# EAGLE library part EPM1270-T144 (library altera-max2)
Altera MAX II CPLD - EPM1270 TQFP-144 Device EPM1270 from Altera MAX II Family Feature EPM1270 LEs 1270 Typical Equivalent Macrocells 980 Equivalent Macrocell Range 570 ... 1270 UFM Size (bits) 8192 User I/O pins 116 tPD1 (ns) 6.2 fCNT (MHz) 304 tSU (ns) 1.2 tCO (ns) 4.6
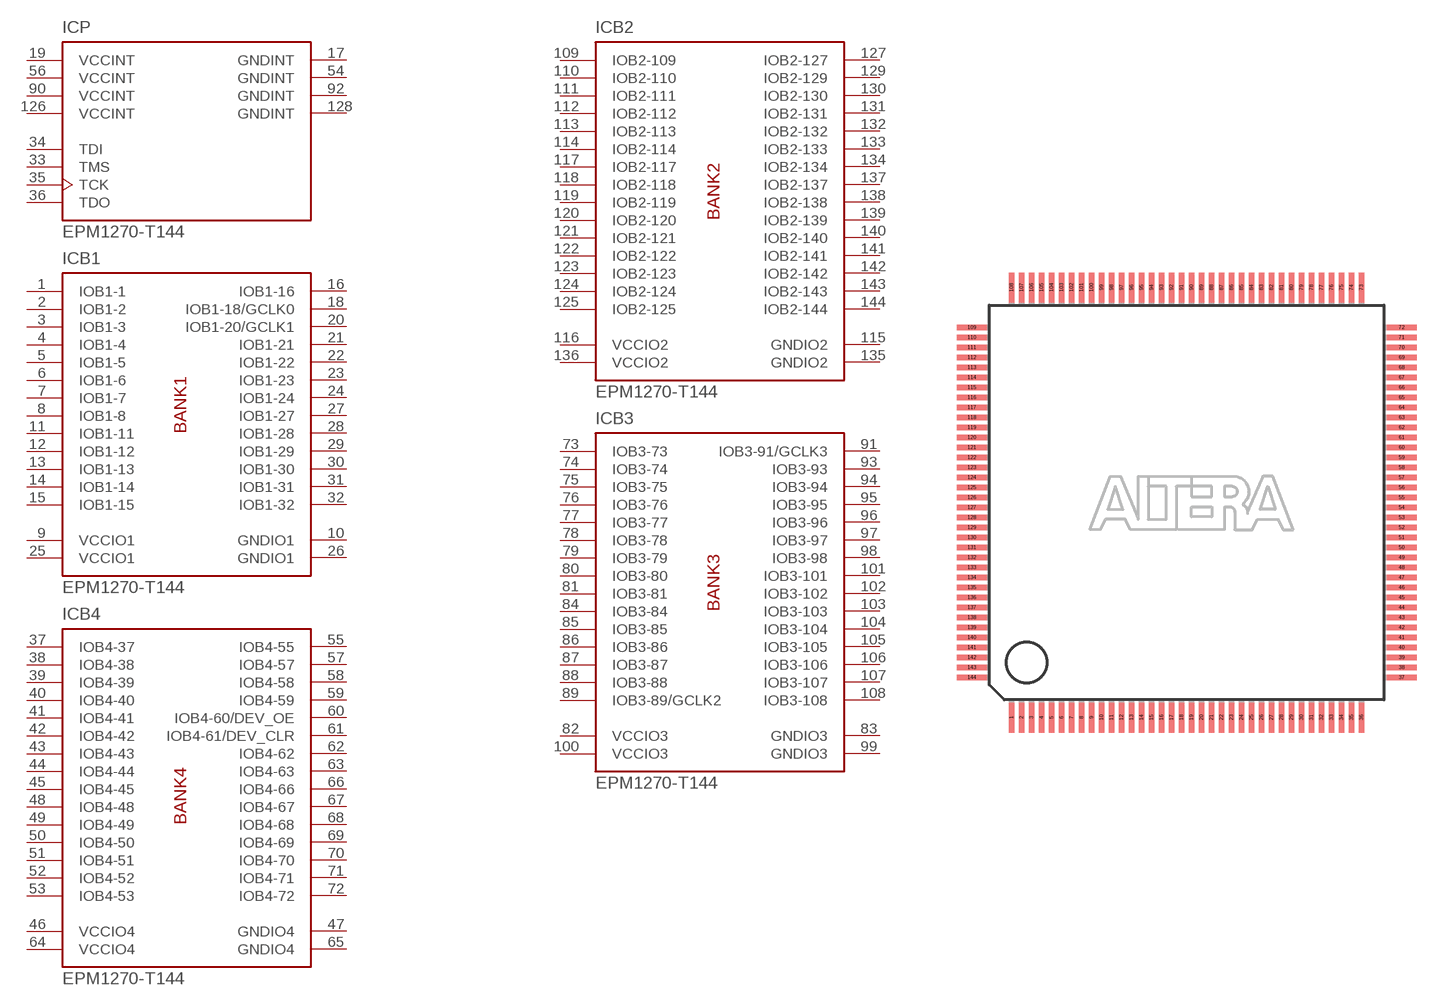
[diagram p0: symbol with the pads of TQFP144; footprint TQFP144]

Designator prefix IC; gates P=EPM1270-TQFP-P B1=EPM1270-TQFP-B1 B2=EPM1270-TQFP-B2 B3=EPM1270-TQFP-B3 B4=EPM1270-TQFP-B4

## EPM1270-T144  [TQFP144]
1  B1:IOB1-1
2  B1:IOB1-2
3  B1:IOB1-3
4  B1:IOB1-4
5  B1:IOB1-5
6  B1:IOB1-6
7  B1:IOB1-7
8  B1:IOB1-8
9  B1:VCCIO1  pwr
10  B1:GNDIO1  pwr
11  B1:IOB1-11
12  B1:IOB1-12
13  B1:IOB1-13
14  B1:IOB1-14
15  B1:IOB1-15
16  B1:IOB1-16
17  P:GNDINT  pwr
18  B1:IOB1-18/GCLK0
19  P:VCCINT  pwr
20  B1:IOB1-20/GCLK1
21  B1:IOB1-21
22  B1:IOB1-22
23  B1:IOB1-23
24  B1:IOB1-24
25  B1:VCCIO1  pwr
26  B1:GNDIO1  pwr
27  B1:IOB1-27
28  B1:IOB1-28
29  B1:IOB1-29
30  B1:IOB1-30
31  B1:IOB1-31
32  B1:IOB1-32
33  P:TMS  in
34  P:TDI  in
35  P:TCK  in
36  P:TDO  out
37  B4:IOB4-37
38  B4:IOB4-38
39  B4:IOB4-39
40  B4:IOB4-40
41  B4:IOB4-41
42  B4:IOB4-42
43  B4:IOB4-43
44  B4:IOB4-44
45  B4:IOB4-45
46  B4:VCCIO4  pwr
47  B4:GNDIO4  pwr
48  B4:IOB4-48
49  B4:IOB4-49
50  B4:IOB4-50
51  B4:IOB4-51
52  B4:IOB4-52
53  B4:IOB4-53
54  P:GNDINT  pwr
55  B4:IOB4-55
56  P:VCCINT  pwr
57  B4:IOB4-57
58  B4:IOB4-58
59  B4:IOB4-59
60  B4:IOB4-60/DEV_OE
61  B4:IOB4-61/DEV_CLR
62  B4:IOB4-62
63  B4:IOB4-63
64  B4:VCCIO4  pwr
65  B4:GNDIO4  pwr
66  B4:IOB4-66
67  B4:IOB4-67
68  B4:IOB4-68
69  B4:IOB4-69
70  B4:IOB4-70
71  B4:IOB4-71
72  B4:IOB4-72
73  B3:IOB3-73
74  B3:IOB3-74
75  B3:IOB3-75
76  B3:IOB3-76
77  B3:IOB3-77
78  B3:IOB3-78
79  B3:IOB3-79
80  B3:IOB3-80
81  B3:IOB3-81
82  B3:VCCIO3  pwr
83  B3:GNDIO3  pwr
84  B3:IOB3-84
85  B3:IOB3-85
86  B3:IOB3-86
87  B3:IOB3-87
88  B3:IOB3-88
89  B3:IOB3-89/GCLK2
90  P:VCCINT  pwr
91  B3:IOB3-91/GCLK3
92  P:GNDINT  pwr
93  B3:IOB3-93
94  B3:IOB3-94
95  B3:IOB3-95
96  B3:IOB3-96
97  B3:IOB3-97
98  B3:IOB3-98
99  B3:GNDIO3  pwr
100  B3:VCCIO3  pwr
101  B3:IOB3-101
102  B3:IOB3-102
103  B3:IOB3-103
104  B3:IOB3-104
105  B3:IOB3-105
106  B3:IOB3-106
107  B3:IOB3-107
108  B3:IOB3-108
109  B2:IOB2-109
110  B2:IOB2-110
111  B2:IOB2-111
112  B2:IOB2-112
113  B2:IOB2-113
114  B2:IOB2-114
115  B2:GNDIO2  pwr
116  B2:VCCIO2  pwr
117  B2:IOB2-117
118  B2:IOB2-118
119  B2:IOB2-119
120  B2:IOB2-120
121  B2:IOB2-121
122  B2:IOB2-122
123  B2:IOB2-123
124  B2:IOB2-124
125  B2:IOB2-125
126  P:VCCINT  pwr
127  B2:IOB2-127
128  P:GNDINT  pwr
129  B2:IOB2-129
130  B2:IOB2-130
131  B2:IOB2-131
132  B2:IOB2-132
133  B2:IOB2-133
134  B2:IOB2-134
135  B2:GNDIO2  pwr
136  B2:VCCIO2  pwr
137  B2:IOB2-137
138  B2:IOB2-138
139  B2:IOB2-139
140  B2:IOB2-140
141  B2:IOB2-141
142  B2:IOB2-142
143  B2:IOB2-143
144  B2:IOB2-144

## Footprint TQFP144 (pad centres in mm)
Thin Quad Flat Pack
smd 0.27 x 1.5: 1 -8.75,-10.75; 2 -8.25,-10.75; 3 -7.75,-10.75; 4 -7.25,-10.75; 5 -6.75,-10.75; 6 -6.25,-10.75; 7 -5.75,-10.75; 8 -5.25,-10.75; 9 -4.75,-10.75; 10 -4.25,-10.75; 11 -3.75,-10.75; 12 -3.25,-10.75; 13 -2.75,-10.75; 14 -2.25,-10.75; 15 -1.75,-10.75; 16 -1.25,-10.75; 17 -0.75,-10.75; 18 -0.25,-10.75; 19 0.25,-10.75; 20 0.75,-10.75; 21 1.25,-10.75; 22 1.75,-10.75; 23 2.25,-10.75; 24 2.75,-10.75; 25 3.25,-10.75; 26 3.75,-10.75; 27 4.25,-10.75; 28 4.75,-10.75; 29 5.25,-10.75; 30 5.75,-10.75; 31 6.25,-10.75; 32 6.75,-10.75; 33 7.25,-10.75; 34 7.75,-10.75; 35 8.25,-10.75; 36 8.75,-10.75; 73 8.75,10.75; 74 8.25,10.75; 75 7.75,10.75; 76 7.25,10.75; 77 6.75,10.75; 78 6.25,10.75; 79 5.75,10.75; 80 5.25,10.75; 81 4.75,10.75; 82 4.25,10.75; 83 3.75,10.75; 84 3.25,10.75; 85 2.75,10.75; 86 2.25,10.75; 87 1.75,10.75; 88 1.25,10.75; 89 0.75,10.75; 90 0.25,10.75; 91 -0.25,10.75; 92 -0.75,10.75; 93 -1.25,10.75; 94 -1.75,10.75; 95 -2.25,10.75; 96 -2.75,10.75; 97 -3.25,10.75; 98 -3.75,10.75; 99 -4.25,10.75; 100 -4.75,10.75; 101 -5.25,10.75; 102 -5.75,10.75; 103 -6.25,10.75; 104 -6.75,10.75; 105 -7.25,10.75; 106 -7.75,10.75; 107 -8.25,10.75; 108 -8.75,10.75
smd 1.5 x 0.27: 37 10.75,-8.75; 38 10.75,-8.25; 39 10.75,-7.75; 40 10.75,-7.25; 41 10.75,-6.75; 42 10.75,-6.25; 43 10.75,-5.75; 44 10.75,-5.25; 45 10.75,-4.75; 46 10.75,-4.25; 47 10.75,-3.75; 48 10.75,-3.25; 49 10.75,-2.75; 50 10.75,-2.25; 51 10.75,-1.75; 52 10.75,-1.25; 53 10.75,-0.75; 54 10.75,-0.25; 55 10.75,0.25; 56 10.75,0.75; 57 10.75,1.25; 58 10.75,1.75; 59 10.75,2.25; 60 10.75,2.75; 61 10.75,3.25; 62 10.75,3.75; 63 10.75,4.25; 64 10.75,4.75; 65 10.75,5.25; 66 10.75,5.75; 67 10.75,6.25; 68 10.75,6.75; 69 10.75,7.25; 70 10.75,7.75; 71 10.75,8.25; 72 10.75,8.75; 109 -10.75,8.75; 110 -10.75,8.25; 111 -10.75,7.75; 112 -10.75,7.25; 113 -10.75,6.75; 114 -10.75,6.25; 115 -10.75,5.75; 116 -10.75,5.25; 117 -10.75,4.75; 118 -10.75,4.25; 119 -10.75,3.75; 120 -10.75,3.25; 121 -10.75,2.75; 122 -10.75,2.25; 123 -10.75,1.75; 124 -10.75,1.25; 125 -10.75,0.75; 126 -10.75,0.25; 127 -10.75,-0.25; 128 -10.75,-0.75; 129 -10.75,-1.25; 130 -10.75,-1.75; 131 -10.75,-2.25; 132 -10.75,-2.75; 133 -10.75,-3.25; 134 -10.75,-3.75; 135 -10.75,-4.25; 136 -10.75,-4.75; 137 -10.75,-5.25; 138 -10.75,-5.75; 139 -10.75,-6.25; 140 -10.75,-6.75; 141 -10.75,-7.25; 142 -10.75,-7.75; 143 -10.75,-8.25; 144 -10.75,-8.75